# EAGLE library part USBB_F2 (library DMClock2018)
USB type B connector, with 2 frame poles
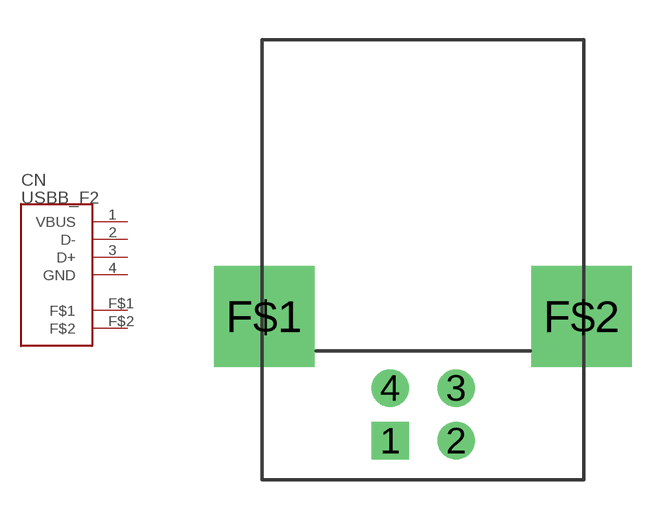
[diagram p6: symbol with the pads of 5075BR-04; footprint 5075BR-04]

Designator prefix CN

## USBB_F2'5075BR-04'  [5075BR-04]
1  VBUS
2  D-
3  D+
4  GND
F$1  F$1
F$2  F$2

## Footprint 5075BR-04 (pad centres in mm)
drill 0.9 pad 1.422 square: 1 -1.25,-1
drill 0.9 pad 1.422 round: 2 1.25,-1; 3 1.25,1; 4 -1.25,1
drill 2.3 pad 3.81 square: F$1 -6.02,3.71; F$2 6.02,3.71